# Altium schematic symbol library 1N4148.SchLib: 1 symbol
Pins are listed as number, name and electrical type; pins without a type are passive.

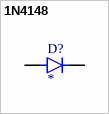
[diagram p0: symbol 1N4148]

## 1N4148
designator D?
Diode Standard 75V 200mA Surface Mount SOD-523F; MF: onsemi; MP: 1N4148; SnapEDA_Link: https://www.snapeda.com/parts/1N4148/Onsemi/view-part/?ref=snap; Package: AXIAL LEAD-2 ON Semiconductor; Value: *; Check_prices: https://www.snapeda.com/parts/1N4148/Onsemi/view-part/?ref=eda
footprint DIOAD753W49L380D172B
pins: A, K